# Altium schematic symbol library SMPS_1A LED Drive_LM3405A_1.Schlib: 1 symbol
Pins are listed as number, name and electrical type; pins without a type are passive.

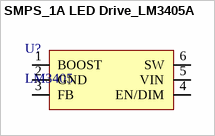
[diagram p0: symbol SMPS_1A LED Drive_LM3405A]

## SMPS_1A LED Drive_LM3405A
designator U?, comment LM3405
1A Constant Current Buck LED Driver w/ internal Compensation; ComponentLink1Description: Datasheet; ComponentLink1URL: http://www.ti.com/lit/ds/symlink/lm3405a.pdf
footprint LM3405A SOT23-6
pins: 1 BOOST, 2 GND, 3 FB, 4 EN/DIM, 5 VIN, 6 SW